# Altium schematic symbol library Interface.SchLib: 8 symbols
Pins are listed as number, name and electrical type; pins without a type are passive.

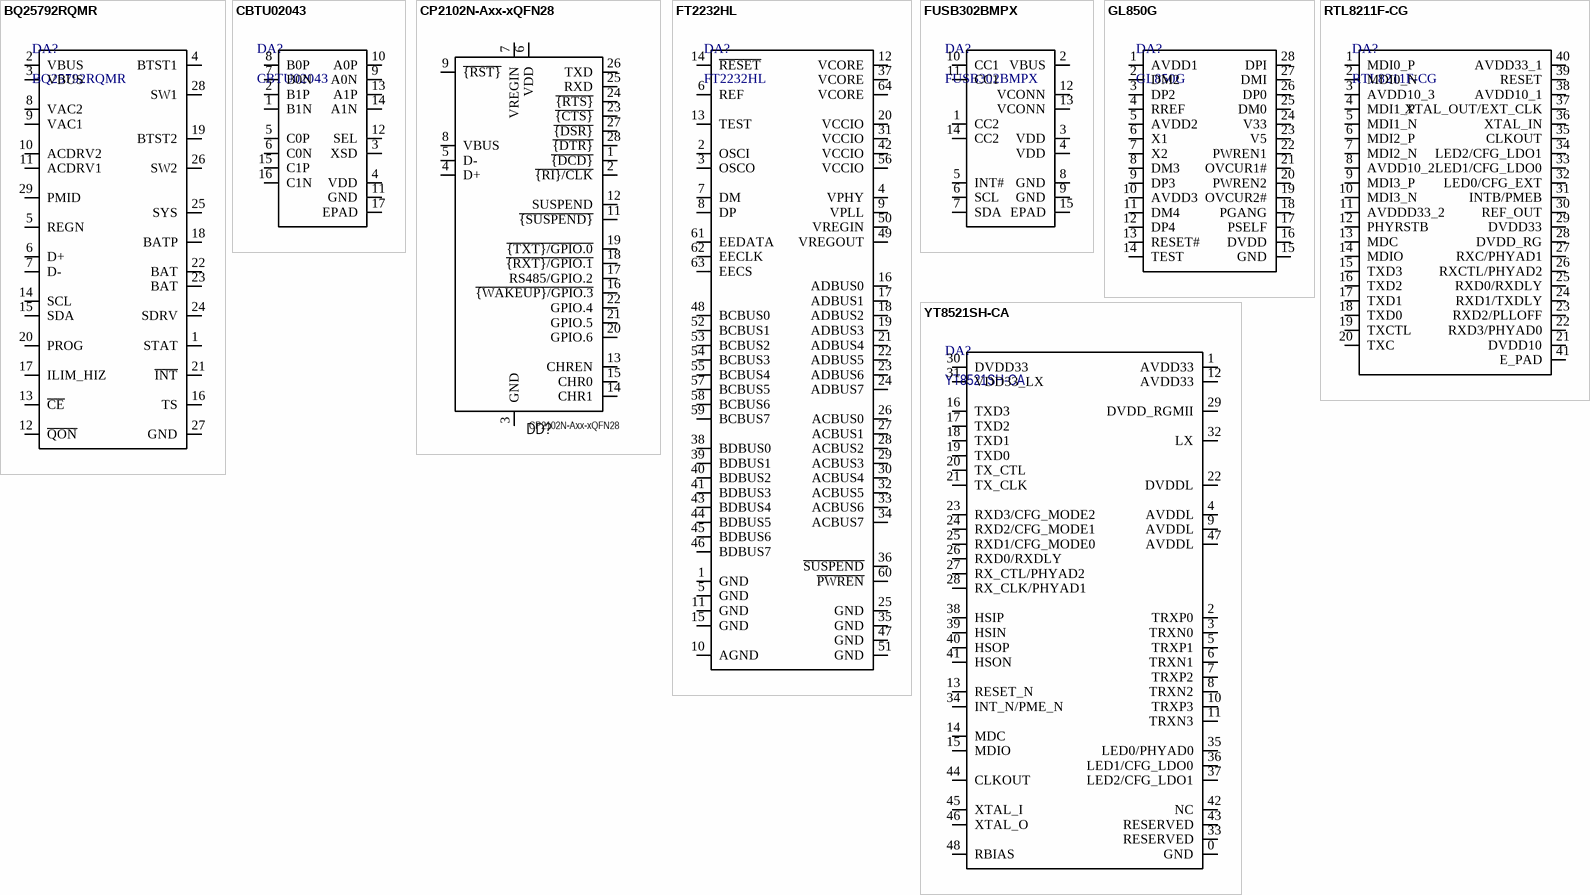
[diagram p0: symbols BQ25792RQMR to YT8521SH-CA]

## BQ25792RQMR
designator DA?
I2C CONTROLLED, 5-A, 1-4 CELL BU
footprint VQFN29-4x4
pins: 1 STAT, 2 VBUS, 3 VBUS, 4 BTST1, 5 REGN, 6 D+, 7 D-, 8 VAC2, 9 VAC1, 10 ACDRV2, 11 ACDRV1, 12 ~{QON}, 13 ~{CE}, 14 SCL, 15 SDA, 16 TS, 17 ILIM_HIZ, 18 BATP, 19 BTST2, 20 PROG, 21 ~{INT}, 22 BAT, 23 BAT, 24 SDRV, 25 SYS, 26 SW2, 27 GND, 28 SW1, 29 PMID

## CBTU02043
designator DA?
High-speed differential 1-to-2 switch. / USB Switch IC 2 Channel 16-HUQFN (1.6x2.4); ComponentLink1Description: Datasheet; ComponentLink1URL: https://static.chipdip.ru/lib/652/DOC011652860.pdf
footprint HUQFN16 (1.6x2.4x0.5 mm)
pins: 1 B1N, 2 B1P, 3 XSD, 4 VDD, 5 C0P, 6 C0N, 7 B0N, 8 B0P, 9 A0N, 10 A0P, 11 GND, 12 SEL, 13 A1P, 14 A1N, 15 C1P, 16 C1N, 17 EPAD

## CP2102N-Axx-xQFN28
designator DD?
Interface/USB Converters; PartNumber: CP2102-GMR; Footprint: Package_DFN_QFN:QFN-28-1EP_5x5mm_P0.5mm_EP3.35x3.35mm; Value: CP2102N-Axx-xQFN28
footprint QFN28_5x5 (QFN, 28-Leads, Body 5,00x5,00mm, Pitch 0,50mm, Thermal Pad 3,25x3,25mm, IPC Medium Density)
pins: 1 ~{{DCD}}, 2 ~{{RI}/CLK}, 3 GND, 4 D+, 5 D-, 6 VDD, 7 VREGIN, 8 VBUS, 9 ~{{RST}}, 10 NC hidden, 11 ~{{SUSPEND}}, 12 SUSPEND, 13 CHREN, 14 CHR1, 15 CHR0, 16 ~{{WAKEUP}/GPIO.3}, 17 RS485/GPIO.2, 18 ~{{RXT}/GPIO.1}, 19 ~{{TXT}/GPIO.0}, 20 GPIO.6, 21 GPIO.5, 22 GPIO.4, 23 ~{{CTS}}, 24 ~{{RTS}}, 25 RXD, 26 TXD, 27 ~{{DSR}}, 28 ~{{DTR}}, 29 GND hidden

## FT2232HL
designator DA?
IC USB HS DUAL UART/FIFO 64-LQFP
footprint LQFP-64
pins: 1 GND, 2 OSCI, 3 OSCO, 4 VPHY, 5 GND, 6 REF, 7 DM, 8 DP, 9 VPLL, 10 AGND, 11 GND, 12 VCORE, 13 TEST, 14 ~{RESET}, 15 GND, 16 ADBUS0, 17 ADBUS1, 18 ADBUS2, 19 ADBUS3, 20 VCCIO, 21 ADBUS4, 22 ADBUS5, 23 ADBUS6, 24 ADBUS7, 25 GND, 26 ACBUS0, 27 ACBUS1, 28 ACBUS2, 29 ACBUS3, 30 ACBUS4, 31 VCCIO, 32 ACBUS5, 33 ACBUS6, 34 ACBUS7, 35 GND, 36 ~{SUSPEND}, 37 VCORE, 38 BDBUS0, 39 BDBUS1, 40 BDBUS2, 41 BDBUS3, 42 VCCIO, 43 BDBUS4, 44 BDBUS5, 45 BDBUS6, 46 BDBUS7, 47 GND, 48 BCBUS0, 49 VREGOUT, 50 VREGIN, 51 GND, 52 BCBUS1, 53 BCBUS2, 54 BCBUS3, 55 BCBUS4, 56 VCCIO, 57 BCBUS5, 58 BCBUS6, 59 BCBUS7, 60 ~{PWREN}, 61 EEDATA, 62 EECLK, 63 EECS, 64 VCORE

## FUSB302BMPX
designator DA?
Programmable USB Type‐C Controller w/PD / WQFN14
footprint WQFN14 (2.5x2.5x0.75 mm)
pins: 1 CC2, 2 VBUS, 3 VDD, 4 VDD, 5 INT#, 6 SCL, 7 SDA, 8 GND, 9 GND, 10 CC1, 11 CC1, 12 VCONN, 13 VCONN, 14 CC2, 15 EPAD

## GL850G
designator DA?
USB 2.0 Hub Controller
footprint SSOP-28
pins: 1 AVDD1, 2 DM2, 3 DP2, 4 RREF, 5 AVDD2, 6 X1, 7 X2, 8 DM3, 9 DP3, 10 AVDD3, 11 DM4, 12 DP4, 13 RESET#, 14 TEST, 15 GND, 16 DVDD, 17 PSELF, 18 PGANG, 19 OVCUR2#, 20 PWREN2, 21 OVCUR1#, 22 PWREN1, 23 V5, 24 V33, 25 DM0, 26 DP0, 27 DMI, 28 DPI

## RTL8211F-CG
designator DA?
Integrated 10/100/1000 Gigabit Ethernet TransceiverЈ¬Supports IEEE 802.3az-2010,
footprint QFN-40 5x5
pins: 1 MDI0_P, 2 MDI0_N, 3 AVDD10_3, 4 MDI1_P, 5 MDI1_N, 6 MDI2_P, 7 MDI2_N, 8 AVDD10_2, 9 MDI3_P, 10 MDI3_N, 11 AVDDD33_2, 12 PHYRSTB, 13 MDC, 14 MDIO, 15 TXD3, 16 TXD2, 17 TXD1, 18 TXD0, 19 TXCTL, 20 TXC, 21 DVDD10, 22 RXD3/PHYAD0, 23 RXD2/PLLOFF, 24 RXD1/TXDLY, 25 RXD0/RXDLY, 26 RXCTL/PHYAD2, 27 RXC/PHYAD1, 28 DVDD_RG, 29 DVDD33, 30 REF_OUT, 31 INTB/PMEB, 32 LED0/CFG_EXT, 33 LED1/CFG_LDO0, 34 LED2/CFG_LDO1, 35 CLKOUT, 36 XTAL_IN, 37 XTAL_OUT/EXT_CLK, 38 AVDD10_1, 39 RESET, 40 AVDD33_1, 41 E_PAD

## YT8521SH-CA
designator DA?
YT8521S - highly integrated Ethernet transceiver; Package: QFN48
footprint QFN48_6x6
pins: 0 GND, 1 AVDD33, 2 TRXP0, 3 TRXN0, 4 AVDDL, 5 TRXP1, 6 TRXN1, 7 TRXP2, 8 TRXN2, 9 AVDDL, 10 TRXP3, 11 TRXN3, 12 AVDD33, 13 RESET_N, 14 MDC, 15 MDIO, 16 TXD3, 17 TXD2, 18 TXD1, 19 TXD0, 20 TX_CTL, 21 TX_CLK, 22 DVDDL, 23 RXD3/CFG_MODE2, 24 RXD2/CFG_MODE1, 25 RXD1/CFG_MODE0, 26 RXD0/RXDLY, 27 RX_CTL/PHYAD2, 28 RX_CLK/PHYAD1, 29 DVDD_RGMII, 30 DVDD33, 31 VDD33_LX, 32 LX, 33 RESERVED, 34 INT_N/PME_N, 35 LED0/PHYAD0, 36 LED1/CFG_LDO0, 37 LED2/CFG_LDO1, 38 HSIP, 39 HSIN, 40 HSOP, 41 HSON, 42 NC, 43 RESERVED, 44 CLKOUT, 45 XTAL_I, 46 XTAL_O, 47 AVDDL, 48 RBIAS